# Altium integrated library Altium_WL-SICW (rev22c).IntLib: 12 symbols
Pins are listed as number, name and electrical type; pins without a type are passive.

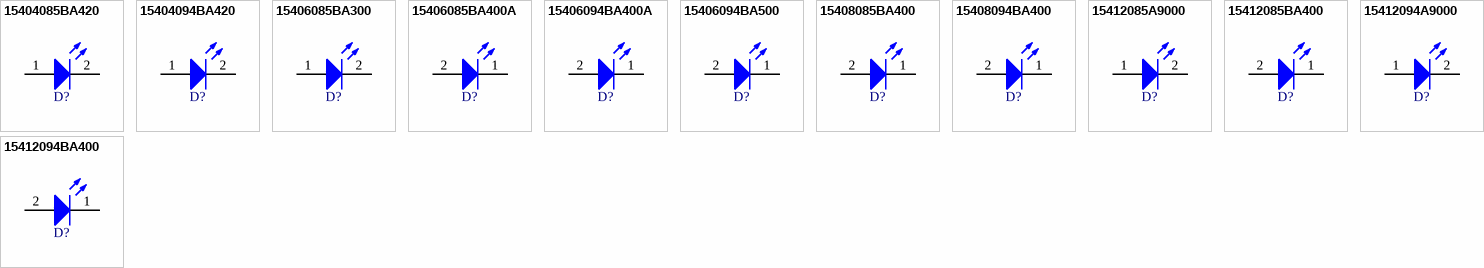
[diagram p0: symbols 15404085BA420 to 15412094BA400]

## 15404085BA420
designator D?, comment Infrared, 1.6V, 140°  (value not drawn)
WL-SICW SMT Chip LED Infrared Waterclear, size 0402, Infrared, 1.6V, 140°; Manufacturer Part Number: 15404085BA420; Manufacturer: Wurth Elektronik; Case/Size Code: 0402; Centroid Wavelength: 845nm; Chip Technology: AlGaAs; Forward Voltage Max: 2V; Peak Wavelength: 850nm; Radiant Intensity: 6mW/sr; Radiant Intensity Min: 3mW/sr; Category: Infrared LEDs; Match Code: WL-SICW; ComponentLink1Description: Website Link; ComponentLink1URL: https://www.we-online.com/redexpert/article/15404085BA420?ad; ComponentLink2Description: Datasheet Link; ComponentLink2URL: https://www.we-online.com/redexpert/spec/15404085BA420?ad; Mount: Surface Mount; Operating Temperature Max: 85°C; Operating Temperature Min: -40°C; Packaging: Tape and Reel; Length: 1mm; Width: 0.5mm; Height: 0.5mm; Emitting Color: Infrared; Forward Voltage: 1.6V; Viewing Angle: 140°
footprint WL-SICW_0402_L1W0.5H0.5
simulation model 0402_15404085BA420
pins: 1 A, 2 K

## 15404094BA420
designator D?, comment Infrared, 1.4V, 140°  (value not drawn)
WL-SICW SMT Chip LED Infrared Waterclear, size 0402, Infrared, 1.4V, 140°; Manufacturer Part Number: 15404094BA420; Manufacturer: Wurth Elektronik; Case/Size Code: 0402; Centroid Wavelength: 940nm; Chip Technology: AlGaAs; Forward Voltage Max: 2V; Radiant Intensity: 5mW/sr; Radiant Intensity Min: 3mW/sr; Category: Infrared LEDs; Match Code: WL-SICW; ComponentLink1Description: Website Link; ComponentLink1URL: https://www.we-online.com/redexpert/article/15404094BA420?ad; ComponentLink2Description: Datasheet Link; ComponentLink2URL: https://www.we-online.com/redexpert/spec/15404094BA420?ad; Mount: Surface Mount; Operating Temperature Max: 85°C; Operating Temperature Min: -40°C; Packaging: Tape and Reel; Length: 1mm; Width: 0.5mm; Height: 0.5mm; Emitting Color: Infrared; Forward Voltage: 1.4V; Peak Wavelength: 940nm; Viewing Angle: 140°
footprint WL-SICW_0402_L1W0.5H0.5
simulation model 0402_15404094BA420
pins: 1 A, 2 K

## 15406085BA300
designator D?, comment Infrared, 1.4V, 130°  (value not drawn)
WL-SICW SMT Chip LED Infrared Waterclear, size 0603, Infrared, 1.4V, 130°; Manufacturer Part Number: 15406085BA300; Manufacturer: Wurth Elektronik; Case/Size Code: 0603; Centroid Wavelength: 845nm; Chip Technology: AlGaAs; Forward Voltage Max: 2V; Peak Wavelength: 850nm; Radiant Intensity: 2mW/sr; Radiant Intensity Min: 1mW/sr; Category: Infrared LEDs; Match Code: WL-SICW; ComponentLink1Description: Website Link; ComponentLink1URL: https://www.we-online.com/redexpert/article/15406085BA300?ad; ComponentLink2Description: Datasheet Link; ComponentLink2URL: https://www.we-online.com/redexpert/spec/15406085BA300?ad; Mount: Surface Mount; Operating Temperature Max: 85°C; Operating Temperature Min: -40°C; Packaging: Tape and Reel; Length: 1.6mm; Width: 0.8mm; Height: 0.6mm; Emitting Color: Infrared; Forward Voltage: 1.4V; Viewing Angle: 130°
footprint WL-SICW_0603_L1.6W0.8H0.6
simulation model 0603_15406085BA300
pins: 1 A, 2 K

## 15406085BA400A
designator D?, comment Infrared, 1.4V, 140°  (value not drawn)
WL-SICW SMT Chip LED Infrared Waterclear, size 0603, Infrared, 1.4V, 140°; Manufacturer Part Number: 15406085BA400A; Manufacturer: Wurth Elektronik; Case/Size Code: 0603; Centroid Wavelength: 845nm; Chip Technology: AlGaAs; Forward Voltage Max: 2V; Peak Wavelength: 850nm; Radiant Intensity: 1.2mW/sr; Radiant Intensity Min: 0.5mW/sr; Category: Infrared LEDs; Match Code: WL-SICW; ComponentLink1Description: Website Link; ComponentLink1URL: https://www.we-online.com/redexpert/article/15406085BA400A?ad; ComponentLink2Description: Datasheet Link; ComponentLink2URL: https://www.we-online.com/redexpert/spec/15406085BA400A?ad; Mount: Surface Mount; Operating Temperature Max: 85°C; Operating Temperature Min: -40°C; Packaging: Tape and Reel; Length: 1.6mm; Width: 0.8mm; Height: 0.88mm; Emitting Color: Infrared; Forward Voltage: 1.4V; Viewing Angle: 140°
footprint WL-SICW_0603_L1.6W0.8H0.88
simulation model 0603_15406085BA400A
pins: 1 K, 2 A

## 15406094BA400A
designator D?, comment Infrared, 1.2V, 140°  (value not drawn)
WL-SICW SMT Chip LED Infrared Waterclear, size 0603, Infrared, 1.2V, 140°; Manufacturer Part Number: 15406094BA400A; Manufacturer: Wurth Elektronik; Case/Size Code: 0603; Centroid Wavelength: 940nm; Chip Technology: AlGaAs; Forward Voltage Max: 1.5V; Radiant Intensity: 1mW/sr; Radiant Intensity Min: 0.4mW/sr; Category: Infrared LEDs; Match Code: WL-SICW; ComponentLink1Description: Website Link; ComponentLink1URL: https://www.we-online.com/redexpert/article/15406094BA400A?ad; ComponentLink2Description: Datasheet Link; ComponentLink2URL: https://www.we-online.com/redexpert/spec/15406094BA400A?ad; Mount: Surface Mount; Operating Temperature Max: 85°C; Operating Temperature Min: -40°C; Packaging: Tape and Reel; Length: 1.6mm; Width: 0.8mm; Height: 0.88mm; Emitting Color: Infrared; Forward Voltage: 1.2V; Peak Wavelength: 940nm; Viewing Angle: 140°
footprint WL-SICW_0603_L1.6W0.8H0.88
simulation model 0603_15406094BA400A
pins: 1 K, 2 A

## 15406094BA500
designator D?, comment Infrared, 1.2V, 150°  (value not drawn)
WL-SICW SMT Chip LED Infrared Waterclear, size 0603, Infrared, 1.2V, 150°; Manufacturer Part Number: 15406094BA500; Manufacturer: Wurth Elektronik; Case/Size Code: 0603; Centroid Wavelength: 940nm; Chip Technology: AlGaAs; Forward Voltage Max: 1.5V; Radiant Intensity: 0.8mW/sr; Radiant Intensity Min: 0.4mW/sr; Category: Infrared LEDs; Match Code: WL-SICW; ComponentLink1Description: Website Link; ComponentLink1URL: https://www.we-online.com/redexpert/article/15406094BA500?ad; ComponentLink2Description: Datasheet Link; ComponentLink2URL: https://www.we-online.com/redexpert/spec/15406094BA500?ad; Mount: Surface Mount; Operating Temperature Max: 85°C; Operating Temperature Min: -40°C; Packaging: Tape and Reel; Length: 1.6mm; Width: 0.8mm; Height: 0.6mm; Emitting Color: Infrared; Forward Voltage: 1.2V; Peak Wavelength: 940nm; Viewing Angle: 150°
footprint WL-SICW_0603_L1.6W0.8H0.6
simulation model 0603_15406094BA500
pins: 1 K, 2 A

## 15408085BA400
designator D?, comment Infrared, 1.4V, 140°  (value not drawn)
WL-SICW SMT Chip LED Infrared Waterclear, size 0805, Infrared, 1.4V, 140°; Manufacturer Part Number: 15408085BA400; Manufacturer: Wurth Elektronik; Case/Size Code: 0805; Centroid Wavelength: 845nm; Chip Technology: AlGaAs; Forward Voltage Max: 2V; Peak Wavelength: 850nm; Radiant Intensity: 1.5mW/sr; Radiant Intensity Min: 0.6mW/sr; Category: Infrared LEDs; Match Code: WL-SICW; ComponentLink1Description: Website Link; ComponentLink1URL: https://www.we-online.com/redexpert/article/15408085BA400?ad; ComponentLink2Description: Datasheet Link; ComponentLink2URL: https://www.we-online.com/redexpert/spec/15408085BA400?ad; Mount: Surface Mount; Operating Temperature Max: 85°C; Operating Temperature Min: -40°C; Packaging: Tape and Reel; Length: 2mm; Width: 1.3mm; Height: 0.8mm; Emitting Color: Infrared; Forward Voltage: 1.4V; Viewing Angle: 140°
footprint WL-SICW_0805_L2W1.3H0.8
simulation model 0805_15408085BA400
pins: 1 K, 2 A

## 15408094BA400
designator D?, comment Infrared, 1.2V, 140°  (value not drawn)
WL-SICW SMT Chip LED Infrared Waterclear, size 0805, Infrared, 1.2V, 140°; Manufacturer Part Number: 15408094BA400; Manufacturer: Wurth Elektronik; Case/Size Code: 0805; Centroid Wavelength: 940nm; Chip Technology: AlGaAs; Forward Voltage Max: 1.8V; Radiant Intensity: 1mW/sr; Radiant Intensity Min: 0.5mW/sr; Category: Infrared LEDs; Match Code: WL-SICW; ComponentLink1Description: Website Link; ComponentLink1URL: https://www.we-online.com/redexpert/article/15408094BA400?ad; ComponentLink2Description: Datasheet Link; ComponentLink2URL: https://www.we-online.com/redexpert/spec/15408094BA400?ad; Mount: Surface Mount; Operating Temperature Max: 85°C; Operating Temperature Min: -40°C; Packaging: Tape and Reel; Length: 2mm; Width: 1.3mm; Height: 0.8mm; Emitting Color: Infrared; Forward Voltage: 1.2V; Peak Wavelength: 940nm; Viewing Angle: 140°
footprint WL-SICW_0805_L2W1.3H0.8
simulation model 0805_15408094BA400
pins: 1 K, 2 A

## 15412085A9000
designator D?, comment Infrared, 1.4V, 90°  (value not drawn)
WL-SICW SMT Chip LED Infrared Waterclear, size 1206, Infrared, 1.4V, 90°; Manufacturer Part Number: 15412085A9000; Manufacturer: Wurth Elektronik; Case/Size Code: 1206; Centroid Wavelength: 845nm; Chip Technology: AlGaAs; Forward Voltage Max: 2V; Peak Wavelength: 850nm; Radiant Intensity: 5mW/sr; Radiant Intensity Min: 3mW/sr; Category: Infrared LEDs; Match Code: WL-SICW; ComponentLink1Description: Website Link; ComponentLink1URL: https://www.we-online.com/redexpert/article/15412085A9000?ad; ComponentLink2Description: Datasheet Link; ComponentLink2URL: https://www.we-online.com/redexpert/spec/15412085A9000?ad; Mount: Surface Mount; Operating Temperature Max: 85°C; Operating Temperature Min: -40°C; Packaging: Tape and Reel; Length: 3mm; Width: 1.5mm; Height: 1.21mm; Emitting Color: Infrared; Forward Voltage: 1.4V; Viewing Angle: 90°
footprint WL-SICW_1206_L3W1.5H1.21
simulation model 1206_15412085A9000
pins: 1 A, 2 K

## 15412085BA400
designator D?, comment Infrared, 1.4V, 140°  (value not drawn)
WL-SICW SMT Chip LED Infrared Waterclear, size 1206, Infrared, 1.4V, 140°; Manufacturer Part Number: 15412085BA400; Manufacturer: Wurth Elektronik; Case/Size Code: 1206; Centroid Wavelength: 850nm; Chip Technology: AlGaAs; Forward Voltage Max: 2V; Radiant Intensity: 2.5mW/sr; Radiant Intensity Min: 1mW/sr; Category: Infrared LEDs; Match Code: WL-SICW; ComponentLink1Description: Website Link; ComponentLink1URL: https://www.we-online.com/redexpert/article/15412085BA400?ad; ComponentLink2Description: Datasheet Link; ComponentLink2URL: https://www.we-online.com/redexpert/spec/15412085BA400?ad; Mount: Surface Mount; Operating Temperature Max: 85°C; Operating Temperature Min: -40°C; Packaging: Tape and Reel; Length: 3.2mm; Width: 1.6mm; Height: 1.1mm; Emitting Color: Infrared; Forward Voltage: 1.4V; Peak Wavelength: 850nm; Viewing Angle: 140°
footprint WL-SICW_1206_L3.2W1.6H1.1
simulation model 1206_15412085BA400
pins: 1 K, 2 A

## 15412094A9000
designator D?, comment Infrared, 1.2V, 90°  (value not drawn)
WL-SICW SMT Chip LED Infrared Waterclear, size 1206, Infrared, 1.2V, 90°; Manufacturer Part Number: 15412094A9000; Manufacturer: Wurth Elektronik; Case/Size Code: 1206; Centroid Wavelength: 940nm; Chip Technology: AlGaAs; Forward Voltage Max: 1.5V; Radiant Intensity: 5.5mW/sr; Radiant Intensity Min: 4mW/sr; Category: Infrared LEDs; Match Code: WL-SICW; ComponentLink1Description: Website Link; ComponentLink1URL: https://www.we-online.com/redexpert/article/15412094A9000?ad; ComponentLink2Description: Datasheet Link; ComponentLink2URL: https://www.we-online.com/redexpert/spec/15412094A9000?ad; Mount: Surface Mount; Operating Temperature Max: 85°C; Operating Temperature Min: -40°C; Packaging: Tape and Reel; Length: 3mm; Width: 1.5mm; Height: 1.21mm; Emitting Color: Infrared; Forward Voltage: 1.2V; Peak Wavelength: 940nm; Viewing Angle: 90°
footprint WL-SICW_1206_L3W1.5H1.21
simulation model 1206_15412094A9000
pins: 1 A, 2 K

## 15412094BA400
designator D?, comment Infrared, 1.2V, 140°  (value not drawn)
WL-SICW SMT Chip LED Infrared Waterclear, size 1206, Infrared, 1.2V, 140°; Manufacturer Part Number: 15412094BA400; Manufacturer: Wurth Elektronik; Case/Size Code: 1206; Centroid Wavelength: 940nm; Chip Technology: AlGaAs; Forward Voltage Max: 1.8V; Radiant Intensity: 1mW/sr; Radiant Intensity Min: 0.5mW/sr; Category: Infrared LEDs; Match Code: WL-SICW; ComponentLink1Description: Website Link; ComponentLink1URL: https://www.we-online.com/redexpert/article/15412094BA400?ad; ComponentLink2Description: Datasheet Link; ComponentLink2URL: https://www.we-online.com/redexpert/spec/15412094BA400?ad; Mount: Surface Mount; Operating Temperature Max: 85°C; Operating Temperature Min: -40°C; Packaging: Tape and Reel; Length: 3.2mm; Width: 1.6mm; Height: 1.1mm; Emitting Color: Infrared; Forward Voltage: 1.2V; Peak Wavelength: 940nm; Viewing Angle: 140°
footprint WL-SICW_1206_L3.2W1.6H1.1
simulation model 1206_15412094BA400
pins: 1 K, 2 A